# Altium schematic symbol library Components - 31.07.26 - 20.36.SchLib: 1 symbol
Pins are listed as number, name and electrical type; pins without a type are passive.

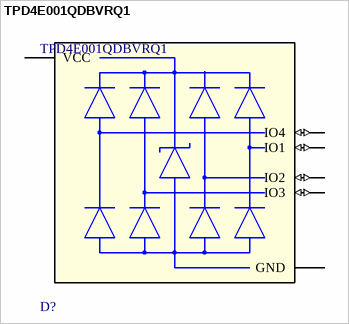
[diagram p0: symbol TPD4E001QDBVRQ1]

## TPD4E001QDBVRQ1
designator D?
TVS DIODE 5.5V 16V SOT23-6; Power Line Protection: Yes; Breakdown Voltage: 11V; Peak Pulse Power: 100W; Number of Channels: 4; Peak Pulse Current: 5.5A; Current Rating: 1nA; Forward Voltage: 950mV; Direction: Unidirectional; Capacitance: 1.5pF; Leakage Current: 200nA; Interface: LVDS; Operating Supply Voltage: 5.5V; Number of Pins: 6; Lead Free: Lead Free; Max Operating Temperature: 125°C; Length: 3.05mm; RoHS Compliant: Yes; Reverse Standoff Voltage: 5.5V; Depth: 1.75mm; Mount: Surface Mount; Termination: SMD/SMT; Radiation Hardening: No; Min Breakdown Voltage: 11V; Max Power Dissipation: 100W; Clamping Voltage: 16V; Case/Package: SOT-23-6; Min Operating Temperature: -40°C; Packaging: Tape and Reel; Package Quantity: 3000; Working Voltage: 5.5V; Number of Bidirectional Channels: 4; Polarity: Unidirectional
footprint FP-DBV0006A-IPC_C
footprint FP-DBV0006A-IPC_B
footprint FP-DBV0006A-MFG
footprint FP-DBV0006A-IPC_A
pins: 1 IO1 (io), 2 GND (power), 3 IO2 (io), 4 IO3 (io), 5 VCC (power), 6 IO4 (io)